# EAGLE library part BSS138BKS (library rpibout)
BSS138BKS Dual N-MOSFET
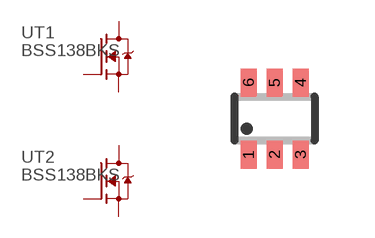
[diagram p1: symbol with the pads of SOT363; footprint SOT363]

Designator prefix -; gates T1=N-MOSFET T2=N-MOSFET

## BSS138BKS  [SOT363]
1  T1:S  pas
2  T1:G  pas
3  T2:D  pas
4  T2:S  pas
5  T2:G  pas
6  T1:D  pas

## Footprint SOT363 (pad centres in mm)
Small Outline Transistor SOT363 6 leads
smd 0.4 x 0.7: 1 -0.65,-0.9; 2 0,-0.9; 3 0.65,-0.9; 4 0.65,0.9; 5 0,0.9; 6 -0.65,0.9